# Altium integrated library Microchip PIC16 Part 1.IntLib: 1800 symbols (part 40 of 93)
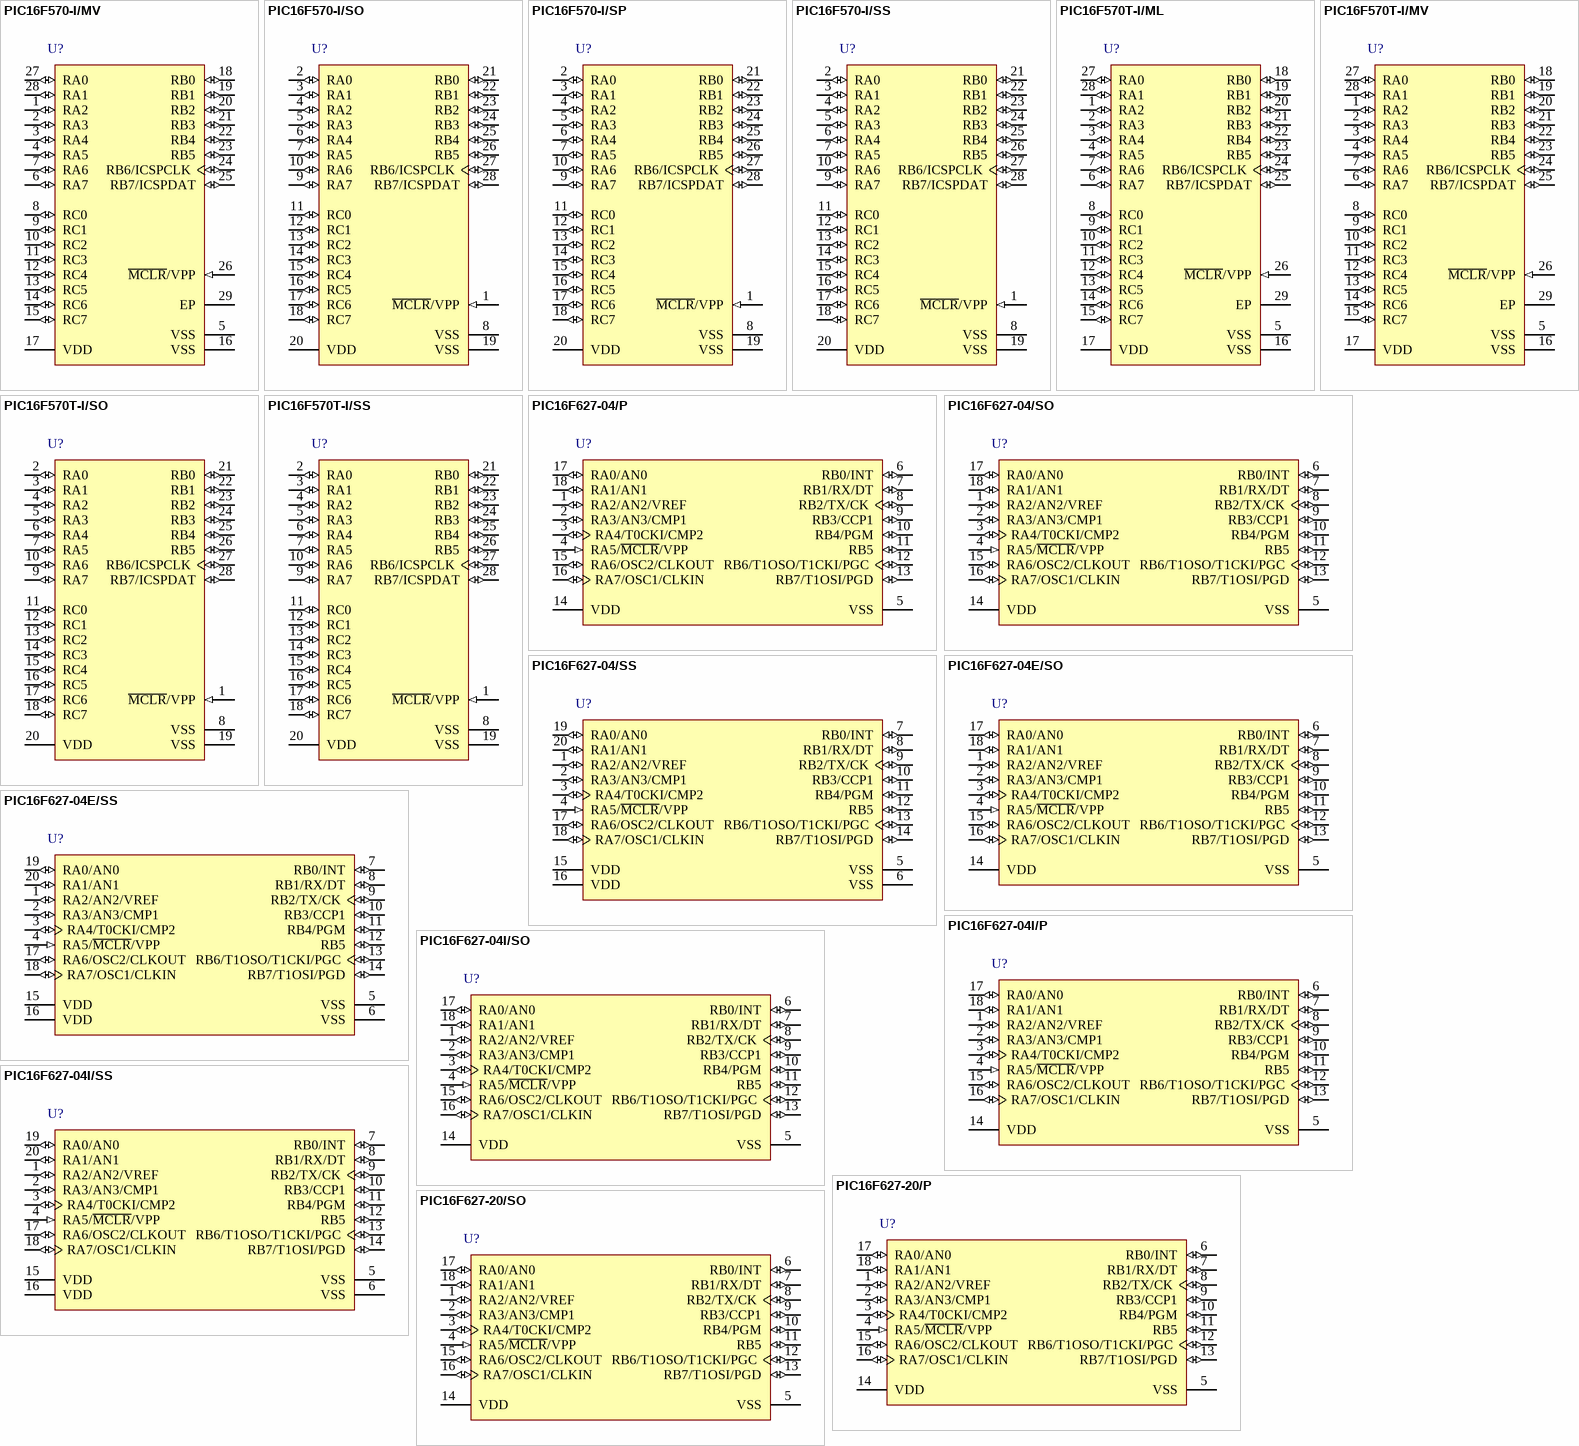
[diagram p139: symbols PIC16F570-I/MV to PIC16F627-20/SO]

## PIC16F627-04/SS
designator U?
Flash-Based 8-Bit CMOS Microcontroller, 4 MHz, 16 I/O, 0 to 70 degC, 20-pin SSOP (SS20), Tube; Manufacturer: Microchip; PartNumber: PIC16F627-04/SS; Digital Communication: 0 -UART, 1 -A/E/USART, 0 -SPI, 0 -I2C; EEPROM Data Memory (bytes): 128; I/O Pins: 16; Max. CPU Speed MHz: 4; Memory Type: Flash; Operation Voltage Range: 3V - 5.5V; Program Memory KBytes: 1.75; Program Memory KWords: 1; RAM: 224; Timers: 2 - 8-bit, 1 - 16-bit, 0 - 32-bit; DatasheetVersion: Rev. C; PackageVersion: C04-072B, 12/2012; PackageReference: SSOP-SS20; PackageDescription: 20-Lead Plastic Shrink Small Outline, 5.3 x 7.2 mm Body, 0.65 mm Pitch; Supplier 1: Digi-Key; Supplier Part Number 1: PIC16F627-04/SS-ND; Supplier 2: Newark; Supplier Part Number 2: 23C4962; Supplier 3: Mouser; Supplier Part Number 3: 579-PIC16F627-04/SS; Packing: TUBE; RoHS: TRUE; Mounting Technology: Surface Mount; ComponentLink1Description: Datasheet; ComponentLink1URL: http://ww1.microchip.com/downloads/en/DeviceDoc/40300C.pdf; ComponentLink2Description: Package Specification; ComponentLink2URL: http://www.microchip.com/stellent/groups/techpub_sg/documents/packagingspec/en012702.pdf; ComponentLink3Description: URL Link1; ComponentLink3URL: Product URL:http://www.microchip.com/datasheet/PIC16F627
footprint MCHP-SSOP-SS20_N (SOP, 20-Leads, Body 7.2x5.3mm, Pitch 0.65mm, IPC Medium Density)
footprint MCHP-SSOP-SS20_L (SOP, 20-Leads, Body 7.2x5.3mm, Pitch 0.65mm, IPC High Density)
footprint MCHP-SSOP-SS20_M (SOP, 20-Leads, Body 7.2x5.3mm, Pitch 0.65mm, IPC Low Density)
pins: 1 RA2/AN2/VREF (io), 2 RA3/AN3/CMP1 (io), 3 RA4/T0CKI/CMP2 (io), 4 RA5/~{MCLR}/VPP (in), 5 VSS (power) "Ground reference for logic and I/O pins", 6 VSS (power) "Ground reference for logic and I/O pins", 7 RB0/INT (io), 8 RB1/RX/DT (io), 9 RB2/TX/CK (io), 10 RB3/CCP1 (io), 11 RB4/PGM (io), 12 RB5 (io) "Bi-directional I/O port. Interrupt-on-pin change. Can be software programmed for internal weak pull-up.", 13 RB6/T1OSO/T1CKI/PGC (io), 14 RB7/T1OSI/PGD (io), 15 VDD (power) "Positive supply for logic and I/O pins", 16 VDD (power) "Positive supply for logic and I/O pins", 17 RA6/OSC2/CLKOUT (io), 18 RA7/OSC1/CLKIN (io), 19 RA0/AN0 (io), 20 RA1/AN1 (io)

## PIC16F627-04E/SO
designator U?
Flash-Based 8-Bit CMOS Microcontroller, 4 MHz, 16 I/O, -40 to 125 degC, 18-pin SOIC (SO18), Tube; Manufacturer: Microchip; PartNumber: PIC16F627-04E/SO; Digital Communication: 0 -UART, 1 -A/E/USART, 0 -SPI, 0 -I2C; EEPROM Data Memory (bytes): 128; I/O Pins: 16; Max. CPU Speed MHz: 4; Memory Type: Flash; Operation Voltage Range: 3V - 5.5V; Program Memory KBytes: 1.75; Program Memory KWords: 1; RAM: 224; Timers: 2 - 8-bit, 1 - 16-bit, 0 - 32-bit; DatasheetVersion: Rev. C; PackageVersion: C04-051C, 12/2012; PackageReference: SOIC-SO18; PackageDescription: 18-Lead Plastic Small Outline, 7.5 x 11.55 mm Body, 1.27 mm Pitch; Supplier 1: Digi-Key; Supplier Part Number 1: PIC16F627-04E/SO-ND; Supplier 2: Mouser; Supplier Part Number 2: 579-PIC16F627-04E/SO; Packing: TUBE; RoHS: TRUE; Mounting Technology: Surface Mount; ComponentLink1Description: Datasheet; ComponentLink1URL: http://ww1.microchip.com/downloads/en/DeviceDoc/40300C.pdf; ComponentLink2Description: Package Specification; ComponentLink2URL: http://www.microchip.com/stellent/groups/techpub_sg/documents/packagingspec/en012702.pdf; ComponentLink3Description: URL Link1; ComponentLink3URL: Product URL:http://www.microchip.com/datasheet/PIC16F627
footprint MCHP-SOIC-SO18_N (SOIC, 18-Leads, Body 11.55x7.5mm, Pitch 1.27mm, IPC Medium Density)
footprint MCHP-SOIC-SO18_L (SOIC, 18-Leads, Body 11.55x7.5mm, Pitch 1.27mm, IPC High Density)
footprint MCHP-SOIC-SO18_M (SOIC, 18-Leads, Body 11.55x7.5mm, Pitch 1.27mm, IPC Low Density)
pins: 1 RA2/AN2/VREF (io), 2 RA3/AN3/CMP1 (io), 3 RA4/T0CKI/CMP2 (io), 4 RA5/~{MCLR}/VPP (in), 5 VSS (power) "Ground reference for logic and I/O pins", 6 RB0/INT (io), 7 RB1/RX/DT (io), 8 RB2/TX/CK (io), 9 RB3/CCP1 (io), 10 RB4/PGM (io), 11 RB5 (io) "Bi-directional I/O port. Interrupt-on-pin change. Can be software programmed for internal weak pull-up.", 12 RB6/T1OSO/T1CKI/PGC (io), 13 RB7/T1OSI/PGD (io), 14 VDD (power) "Positive supply for logic and I/O pins", 15 RA6/OSC2/CLKOUT (io), 16 RA7/OSC1/CLKIN (io), 17 RA0/AN0 (io), 18 RA1/AN1 (io)

## PIC16F627-04E/SS
designator U?
Flash-Based 8-Bit CMOS Microcontroller, 4 MHz, 16 I/O, -40 to 125 degC, 20-pin SSOP (SS20), Tube; Manufacturer: Microchip; PartNumber: PIC16F627-04E/SS; Digital Communication: 0 -UART, 1 -A/E/USART, 0 -SPI, 0 -I2C; EEPROM Data Memory (bytes): 128; I/O Pins: 16; Max. CPU Speed MHz: 4; Memory Type: Flash; Operation Voltage Range: 3V - 5.5V; Program Memory KBytes: 1.75; Program Memory KWords: 1; RAM: 224; Timers: 2 - 8-bit, 1 - 16-bit, 0 - 32-bit; DatasheetVersion: Rev. C; PackageVersion: C04-072B, 12/2012; PackageReference: SSOP-SS20; PackageDescription: 20-Lead Plastic Shrink Small Outline, 5.3 x 7.2 mm Body, 0.65 mm Pitch; Supplier 1: Digi-Key; Supplier Part Number 1: PIC16F627-04E/SS-ND; Supplier 2: Mouser; Supplier Part Number 2: 579-PIC16F627-04E/SS; Packing: TUBE; RoHS: TRUE; Mounting Technology: Surface Mount; ComponentLink1Description: Datasheet; ComponentLink1URL: http://ww1.microchip.com/downloads/en/DeviceDoc/40300C.pdf; ComponentLink2Description: Package Specification; ComponentLink2URL: http://www.microchip.com/stellent/groups/techpub_sg/documents/packagingspec/en012702.pdf; ComponentLink3Description: URL Link1; ComponentLink3URL: Product URL:http://www.microchip.com/datasheet/PIC16F627
footprint MCHP-SSOP-SS20_N (SOP, 20-Leads, Body 7.2x5.3mm, Pitch 0.65mm, IPC Medium Density)
footprint MCHP-SSOP-SS20_L (SOP, 20-Leads, Body 7.2x5.3mm, Pitch 0.65mm, IPC High Density)
footprint MCHP-SSOP-SS20_M (SOP, 20-Leads, Body 7.2x5.3mm, Pitch 0.65mm, IPC Low Density)
pins: 1 RA2/AN2/VREF (io), 2 RA3/AN3/CMP1 (io), 3 RA4/T0CKI/CMP2 (io), 4 RA5/~{MCLR}/VPP (in), 5 VSS (power) "Ground reference for logic and I/O pins", 6 VSS (power) "Ground reference for logic and I/O pins", 7 RB0/INT (io), 8 RB1/RX/DT (io), 9 RB2/TX/CK (io), 10 RB3/CCP1 (io), 11 RB4/PGM (io), 12 RB5 (io) "Bi-directional I/O port. Interrupt-on-pin change. Can be software programmed for internal weak pull-up.", 13 RB6/T1OSO/T1CKI/PGC (io), 14 RB7/T1OSI/PGD (io), 15 VDD (power) "Positive supply for logic and I/O pins", 16 VDD (power) "Positive supply for logic and I/O pins", 17 RA6/OSC2/CLKOUT (io), 18 RA7/OSC1/CLKIN (io), 19 RA0/AN0 (io), 20 RA1/AN1 (io)

## PIC16F627-04I/P
designator U?
Flash-Based 8-Bit CMOS Microcontroller, 4 MHz, 16 I/O, -40 to 85 degC, 18-pin PDIP (P18), Tube; Manufacturer: Microchip; PartNumber: PIC16F627-04I/P; Digital Communication: 0 -UART, 1 -A/E/USART, 0 -SPI, 0 -I2C; EEPROM Data Memory (bytes): 128; I/O Pins: 16; Max. CPU Speed MHz: 4; Memory Type: Flash; Operation Voltage Range: 3V - 5.5V; Program Memory KBytes: 1.75; Program Memory KWords: 1; RAM: 224; Timers: 2 - 8-bit, 1 - 16-bit, 0 - 32-bit; DatasheetVersion: Rev. C; PackageVersion: C04-007B, 12/2012; PackageReference: PDIP-P18; PackageDescription: 18-Lead Plastic Dual In-Line, Row Spacing 7.62 mm, 22.86 x 6.6 mm Body, 2.54 mm Pitch; Supplier 1: Digi-Key; Supplier Part Number 1: PIC16F627-04I/P-ND; Supplier 2: Farnell; Supplier Part Number 2: 1084298; Supplier 3: Newark; Supplier Part Number 3: 97K7322; Supplier 4: Newark; Supplier Part Number 4: 61K3448; Supplier 5: Mouser; Supplier Part Number 5: 579-PIC16F627-04I/P; Packing: TUBE; RoHS: TRUE; Mounting Technology: Through Hole; ComponentLink1Description: Datasheet; ComponentLink1URL: http://ww1.microchip.com/downloads/en/DeviceDoc/40300C.pdf; ComponentLink2Description: Package Specification; ComponentLink2URL: http://www.microchip.com/stellent/groups/techpub_sg/documents/packagingspec/en012702.pdf; ComponentLink3Description: URL Link1; ComponentLink3URL: Product URL:http://www.microchip.com/datasheet/PIC16F627
footprint MCHP-PDIP-P18 (DIP, 18-Leads, Body 22.83x6.604mm, Pitch 2.54mm)
pins: 1 RA2/AN2/VREF (io), 2 RA3/AN3/CMP1 (io), 3 RA4/T0CKI/CMP2 (io), 4 RA5/~{MCLR}/VPP (in), 5 VSS (power) "Ground reference for logic and I/O pins", 6 RB0/INT (io), 7 RB1/RX/DT (io), 8 RB2/TX/CK (io), 9 RB3/CCP1 (io), 10 RB4/PGM (io), 11 RB5 (io) "Bi-directional I/O port. Interrupt-on-pin change. Can be software programmed for internal weak pull-up.", 12 RB6/T1OSO/T1CKI/PGC (io), 13 RB7/T1OSI/PGD (io), 14 VDD (power) "Positive supply for logic and I/O pins", 15 RA6/OSC2/CLKOUT (io), 16 RA7/OSC1/CLKIN (io), 17 RA0/AN0 (io), 18 RA1/AN1 (io)

## PIC16F627-04I/SO
designator U?
Flash-Based 8-Bit CMOS Microcontroller, 4 MHz, 16 I/O, -40 to 85 degC, 18-pin SOIC (SO18), Tube; Manufacturer: Microchip; PartNumber: PIC16F627-04I/SO; Digital Communication: 0 -UART, 1 -A/E/USART, 0 -SPI, 0 -I2C; EEPROM Data Memory (bytes): 128; I/O Pins: 16; Max. CPU Speed MHz: 4; Memory Type: Flash; Operation Voltage Range: 3V - 5.5V; Program Memory KBytes: 1.75; Program Memory KWords: 1; RAM: 224; Timers: 2 - 8-bit, 1 - 16-bit, 0 - 32-bit; DatasheetVersion: Rev. C; PackageVersion: C04-051C, 12/2012; PackageReference: SOIC-SO18; PackageDescription: 18-Lead Plastic Small Outline, 7.5 x 11.55 mm Body, 1.27 mm Pitch; Supplier 1: Digi-Key; Supplier Part Number 1: PIC16F627-04I/SO-ND; Supplier 2: Farnell; Supplier Part Number 2: 9760296; Supplier 3: Newark; Supplier Part Number 3: 19C7271; Supplier 4: Mouser; Supplier Part Number 4: 579-PIC16F627-04I/SO; Packing: TUBE; RoHS: TRUE; Mounting Technology: Surface Mount; ComponentLink1Description: Datasheet; ComponentLink1URL: http://ww1.microchip.com/downloads/en/DeviceDoc/40300C.pdf; ComponentLink2Description: Package Specification; ComponentLink2URL: http://www.microchip.com/stellent/groups/techpub_sg/documents/packagingspec/en012702.pdf; ComponentLink3Description: URL Link1; ComponentLink3URL: Product URL:http://www.microchip.com/datasheet/PIC16F627
footprint MCHP-SOIC-SO18_N (SOIC, 18-Leads, Body 11.55x7.5mm, Pitch 1.27mm, IPC Medium Density)
footprint MCHP-SOIC-SO18_L (SOIC, 18-Leads, Body 11.55x7.5mm, Pitch 1.27mm, IPC High Density)
footprint MCHP-SOIC-SO18_M (SOIC, 18-Leads, Body 11.55x7.5mm, Pitch 1.27mm, IPC Low Density)
pins: 1 RA2/AN2/VREF (io), 2 RA3/AN3/CMP1 (io), 3 RA4/T0CKI/CMP2 (io), 4 RA5/~{MCLR}/VPP (in), 5 VSS (power) "Ground reference for logic and I/O pins", 6 RB0/INT (io), 7 RB1/RX/DT (io), 8 RB2/TX/CK (io), 9 RB3/CCP1 (io), 10 RB4/PGM (io), 11 RB5 (io) "Bi-directional I/O port. Interrupt-on-pin change. Can be software programmed for internal weak pull-up.", 12 RB6/T1OSO/T1CKI/PGC (io), 13 RB7/T1OSI/PGD (io), 14 VDD (power) "Positive supply for logic and I/O pins", 15 RA6/OSC2/CLKOUT (io), 16 RA7/OSC1/CLKIN (io), 17 RA0/AN0 (io), 18 RA1/AN1 (io)

## PIC16F627-04I/SS
designator U?
Flash-Based 8-Bit CMOS Microcontroller, 4 MHz, 16 I/O, -40 to 85 degC, 20-pin SSOP (SS20), Tube; Manufacturer: Microchip; PartNumber: PIC16F627-04I/SS; Digital Communication: 0 -UART, 1 -A/E/USART, 0 -SPI, 0 -I2C; EEPROM Data Memory (bytes): 128; I/O Pins: 16; Max. CPU Speed MHz: 4; Memory Type: Flash; Operation Voltage Range: 3V - 5.5V; Program Memory KBytes: 1.75; Program Memory KWords: 1; RAM: 224; Timers: 2 - 8-bit, 1 - 16-bit, 0 - 32-bit; DatasheetVersion: Rev. C; PackageVersion: C04-072B, 12/2012; PackageReference: SSOP-SS20; PackageDescription: 20-Lead Plastic Shrink Small Outline, 5.3 x 7.2 mm Body, 0.65 mm Pitch; Supplier 1: Digi-Key; Supplier Part Number 1: PIC16F627-04I/SS-ND; Supplier 2: Farnell; Supplier Part Number 2: 9760300; Supplier 3: Newark; Supplier Part Number 3: 97K7324; Supplier 4: Mouser; Supplier Part Number 4: 579-PIC16F627-04I/SS; Packing: TUBE; RoHS: TRUE; Mounting Technology: Surface Mount; ComponentLink1Description: Datasheet; ComponentLink1URL: http://ww1.microchip.com/downloads/en/DeviceDoc/40300C.pdf; ComponentLink2Description: Package Specification; ComponentLink2URL: http://www.microchip.com/stellent/groups/techpub_sg/documents/packagingspec/en012702.pdf; ComponentLink3Description: URL Link1; ComponentLink3URL: Product URL:http://www.microchip.com/datasheet/PIC16F627
footprint MCHP-SSOP-SS20_N (SOP, 20-Leads, Body 7.2x5.3mm, Pitch 0.65mm, IPC Medium Density)
footprint MCHP-SSOP-SS20_L (SOP, 20-Leads, Body 7.2x5.3mm, Pitch 0.65mm, IPC High Density)
footprint MCHP-SSOP-SS20_M (SOP, 20-Leads, Body 7.2x5.3mm, Pitch 0.65mm, IPC Low Density)
pins: 1 RA2/AN2/VREF (io), 2 RA3/AN3/CMP1 (io), 3 RA4/T0CKI/CMP2 (io), 4 RA5/~{MCLR}/VPP (in), 5 VSS (power) "Ground reference for logic and I/O pins", 6 VSS (power) "Ground reference for logic and I/O pins", 7 RB0/INT (io), 8 RB1/RX/DT (io), 9 RB2/TX/CK (io), 10 RB3/CCP1 (io), 11 RB4/PGM (io), 12 RB5 (io) "Bi-directional I/O port. Interrupt-on-pin change. Can be software programmed for internal weak pull-up.", 13 RB6/T1OSO/T1CKI/PGC (io), 14 RB7/T1OSI/PGD (io), 15 VDD (power) "Positive supply for logic and I/O pins", 16 VDD (power) "Positive supply for logic and I/O pins", 17 RA6/OSC2/CLKOUT (io), 18 RA7/OSC1/CLKIN (io), 19 RA0/AN0 (io), 20 RA1/AN1 (io)

## PIC16F627-20/P
designator U?
Flash-Based 8-Bit CMOS Microcontroller, 20 MHz, 16 I/O, 0 to 70 degC, 18-pin PDIP (P18), Tube; Manufacturer: Microchip; PartNumber: PIC16F627-20/P; Digital Communication: 0 -UART, 1 -A/E/USART, 0 -SPI, 0 -I2C; EEPROM Data Memory (bytes): 128; I/O Pins: 16; Max. CPU Speed MHz: 20; Memory Type: Flash; Operation Voltage Range: 3V - 5.5V; Program Memory KBytes: 1.75; Program Memory KWords: 1; RAM: 224; Timers: 2 - 8-bit, 1 - 16-bit, 0 - 32-bit; DatasheetVersion: Rev. C; PackageVersion: C04-007B, 12/2012; PackageReference: PDIP-P18; PackageDescription: 18-Lead Plastic Dual In-Line, Row Spacing 7.62 mm, 22.86 x 6.6 mm Body, 2.54 mm Pitch; Supplier 1: Digi-Key; Supplier Part Number 1: PIC16F627-20/P-ND; Supplier 2: Newark; Supplier Part Number 2: 96K3874; Supplier 3: Mouser; Supplier Part Number 3: 579-PIC16F62720P; Packing: TUBE; RoHS: TRUE; Mounting Technology: Through Hole; ComponentLink1Description: Datasheet; ComponentLink1URL: http://ww1.microchip.com/downloads/en/DeviceDoc/40300C.pdf; ComponentLink2Description: Package Specification; ComponentLink2URL: http://www.microchip.com/stellent/groups/techpub_sg/documents/packagingspec/en012702.pdf; ComponentLink3Description: URL Link1; ComponentLink3URL: Product URL:http://www.microchip.com/datasheet/PIC16F627
footprint MCHP-PDIP-P18 (DIP, 18-Leads, Body 22.83x6.604mm, Pitch 2.54mm)
pins: 1 RA2/AN2/VREF (io), 2 RA3/AN3/CMP1 (io), 3 RA4/T0CKI/CMP2 (io), 4 RA5/~{MCLR}/VPP (in), 5 VSS (power) "Ground reference for logic and I/O pins", 6 RB0/INT (io), 7 RB1/RX/DT (io), 8 RB2/TX/CK (io), 9 RB3/CCP1 (io), 10 RB4/PGM (io), 11 RB5 (io) "Bi-directional I/O port. Interrupt-on-pin change. Can be software programmed for internal weak pull-up.", 12 RB6/T1OSO/T1CKI/PGC (io), 13 RB7/T1OSI/PGD (io), 14 VDD (power) "Positive supply for logic and I/O pins", 15 RA6/OSC2/CLKOUT (io), 16 RA7/OSC1/CLKIN (io), 17 RA0/AN0 (io), 18 RA1/AN1 (io)

## PIC16F627-20/SO
designator U?
Flash-Based 8-Bit CMOS Microcontroller, 20 MHz, 16 I/O, 0 to 70 degC, 18-pin SOIC (SO18), Tube; Manufacturer: Microchip; PartNumber: PIC16F627-20/SO; Digital Communication: 0 -UART, 1 -A/E/USART, 0 -SPI, 0 -I2C; EEPROM Data Memory (bytes): 128; I/O Pins: 16; Max. CPU Speed MHz: 20; Memory Type: Flash; Operation Voltage Range: 3V - 5.5V; Program Memory KBytes: 1.75; Program Memory KWords: 1; RAM: 224; Timers: 2 - 8-bit, 1 - 16-bit, 0 - 32-bit; DatasheetVersion: Rev. C; PackageVersion: C04-051C, 12/2012; PackageReference: SOIC-SO18; PackageDescription: 18-Lead Plastic Small Outline, 7.5 x 11.55 mm Body, 1.27 mm Pitch; Supplier 1: Digi-Key; Supplier Part Number 1: PIC16F627-20/SO-ND; Supplier 2: Newark; Supplier Part Number 2: 23C4965; Supplier 3: Mouser; Supplier Part Number 3: 579-PIC16F62720SO; Packing: TUBE; RoHS: TRUE; Mounting Technology: Surface Mount; ComponentLink1Description: Datasheet; ComponentLink1URL: http://ww1.microchip.com/downloads/en/DeviceDoc/40300C.pdf; ComponentLink2Description: Package Specification; ComponentLink2URL: http://www.microchip.com/stellent/groups/techpub_sg/documents/packagingspec/en012702.pdf; ComponentLink3Description: URL Link1; ComponentLink3URL: Product URL:http://www.microchip.com/datasheet/PIC16F627
footprint MCHP-SOIC-SO18_N (SOIC, 18-Leads, Body 11.55x7.5mm, Pitch 1.27mm, IPC Medium Density)
footprint MCHP-SOIC-SO18_L (SOIC, 18-Leads, Body 11.55x7.5mm, Pitch 1.27mm, IPC High Density)
footprint MCHP-SOIC-SO18_M (SOIC, 18-Leads, Body 11.55x7.5mm, Pitch 1.27mm, IPC Low Density)
pins: 1 RA2/AN2/VREF (io), 2 RA3/AN3/CMP1 (io), 3 RA4/T0CKI/CMP2 (io), 4 RA5/~{MCLR}/VPP (in), 5 VSS (power) "Ground reference for logic and I/O pins", 6 RB0/INT (io), 7 RB1/RX/DT (io), 8 RB2/TX/CK (io), 9 RB3/CCP1 (io), 10 RB4/PGM (io), 11 RB5 (io) "Bi-directional I/O port. Interrupt-on-pin change. Can be software programmed for internal weak pull-up.", 12 RB6/T1OSO/T1CKI/PGC (io), 13 RB7/T1OSI/PGD (io), 14 VDD (power) "Positive supply for logic and I/O pins", 15 RA6/OSC2/CLKOUT (io), 16 RA7/OSC1/CLKIN (io), 17 RA0/AN0 (io), 18 RA1/AN1 (io)

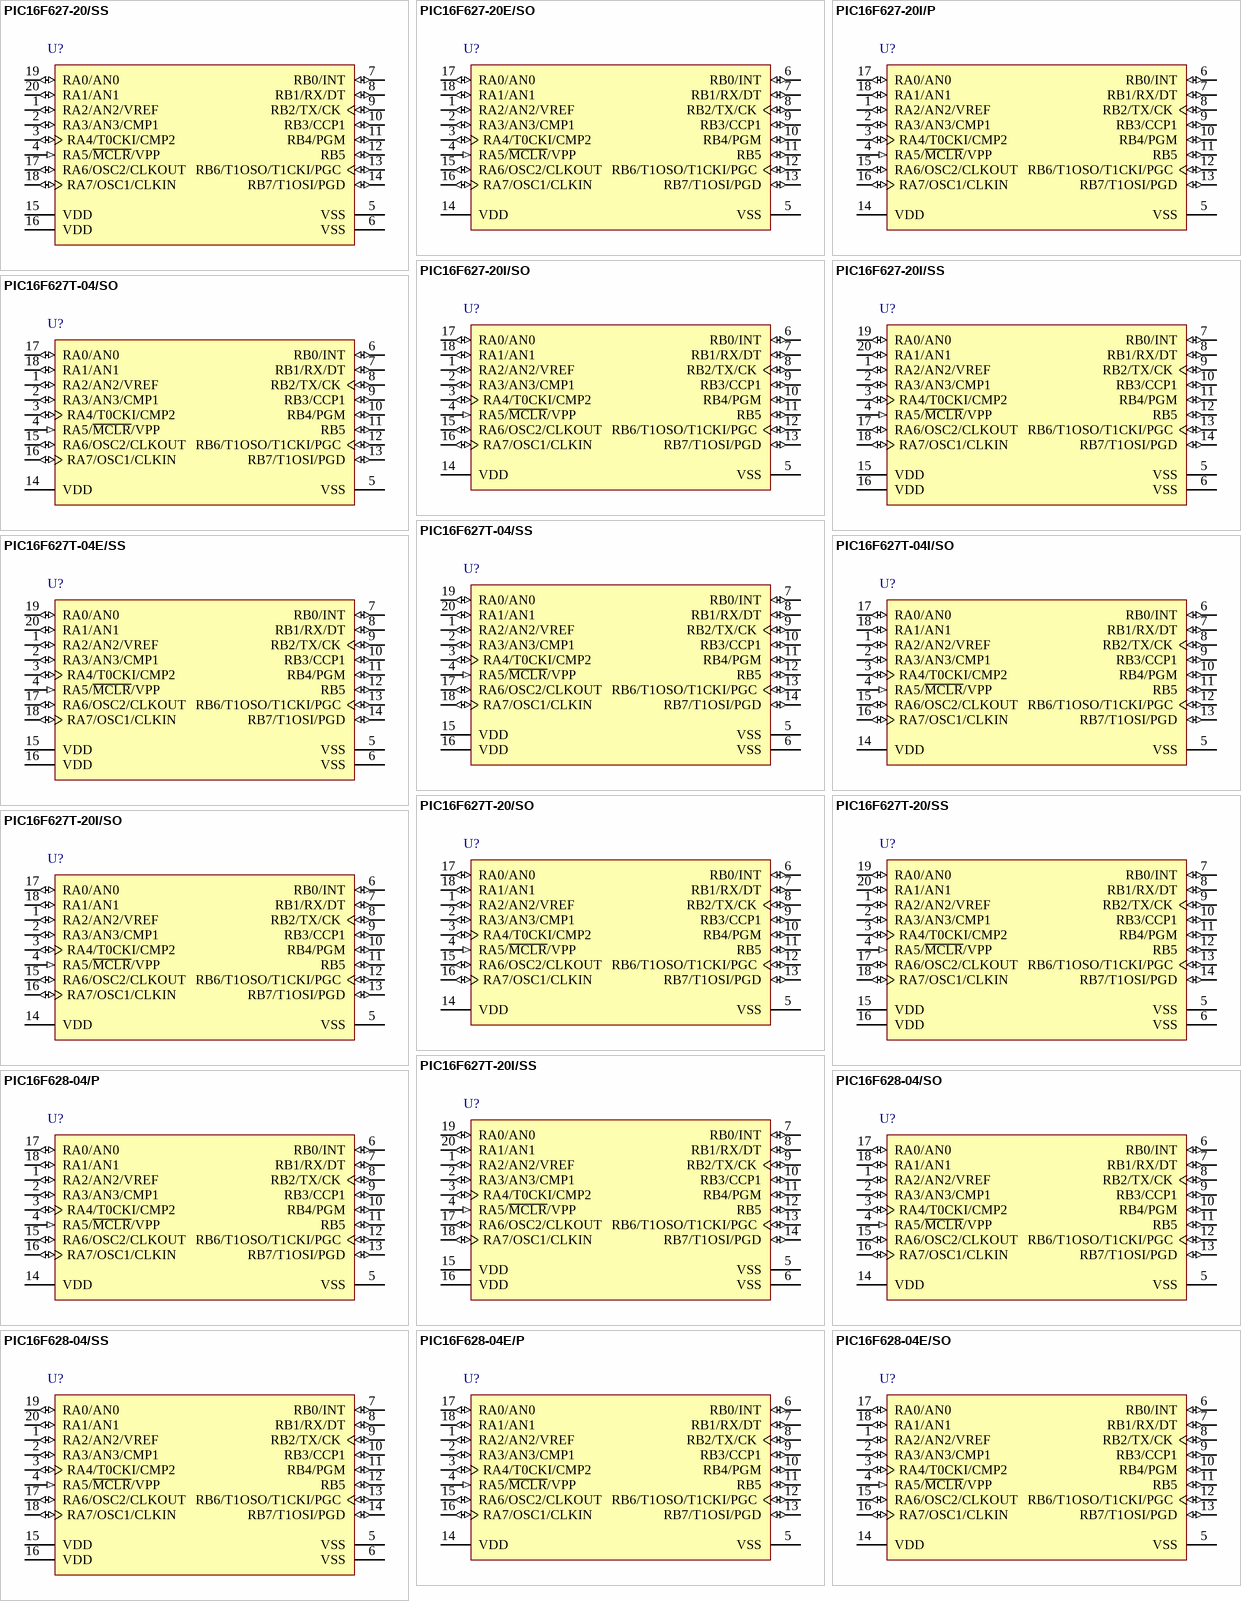
[diagram p35: symbols PIC16F627-20/SS to PIC16F628-04E/SO]

## PIC16F627-20/SS
designator U?
Flash-Based 8-Bit CMOS Microcontroller, 20 MHz, 16 I/O, 0 to 70 degC, 20-pin SSOP (SS20), Tube; Manufacturer: Microchip; PartNumber: PIC16F627-20/SS; Digital Communication: 0 -UART, 1 -A/E/USART, 0 -SPI, 0 -I2C; EEPROM Data Memory (bytes): 128; I/O Pins: 16; Max. CPU Speed MHz: 20; Memory Type: Flash; Operation Voltage Range: 3V - 5.5V; Program Memory KBytes: 1.75; Program Memory KWords: 1; RAM: 224; Timers: 2 - 8-bit, 1 - 16-bit, 0 - 32-bit; DatasheetVersion: Rev. C; PackageVersion: C04-072B, 12/2012; PackageReference: SSOP-SS20; PackageDescription: 20-Lead Plastic Shrink Small Outline, 5.3 x 7.2 mm Body, 0.65 mm Pitch; Supplier 1: Digi-Key; Supplier Part Number 1: PIC16F627-20/SS-ND; Supplier 2: Mouser; Supplier Part Number 2: 579-PIC16F627-20/SS; Packing: TUBE; RoHS: TRUE; Mounting Technology: Surface Mount; ComponentLink1Description: Datasheet; ComponentLink1URL: http://ww1.microchip.com/downloads/en/DeviceDoc/40300C.pdf; ComponentLink2Description: Package Specification; ComponentLink2URL: http://www.microchip.com/stellent/groups/techpub_sg/documents/packagingspec/en012702.pdf; ComponentLink3Description: URL Link1; ComponentLink3URL: Product URL:http://www.microchip.com/datasheet/PIC16F627
footprint MCHP-SSOP-SS20_N (SOP, 20-Leads, Body 7.2x5.3mm, Pitch 0.65mm, IPC Medium Density)
footprint MCHP-SSOP-SS20_L (SOP, 20-Leads, Body 7.2x5.3mm, Pitch 0.65mm, IPC High Density)
footprint MCHP-SSOP-SS20_M (SOP, 20-Leads, Body 7.2x5.3mm, Pitch 0.65mm, IPC Low Density)
pins: 1 RA2/AN2/VREF (io), 2 RA3/AN3/CMP1 (io), 3 RA4/T0CKI/CMP2 (io), 4 RA5/~{MCLR}/VPP (in), 5 VSS (power) "Ground reference for logic and I/O pins", 6 VSS (power) "Ground reference for logic and I/O pins", 7 RB0/INT (io), 8 RB1/RX/DT (io), 9 RB2/TX/CK (io), 10 RB3/CCP1 (io), 11 RB4/PGM (io), 12 RB5 (io) "Bi-directional I/O port. Interrupt-on-pin change. Can be software programmed for internal weak pull-up.", 13 RB6/T1OSO/T1CKI/PGC (io), 14 RB7/T1OSI/PGD (io), 15 VDD (power) "Positive supply for logic and I/O pins", 16 VDD (power) "Positive supply for logic and I/O pins", 17 RA6/OSC2/CLKOUT (io), 18 RA7/OSC1/CLKIN (io), 19 RA0/AN0 (io), 20 RA1/AN1 (io)

## PIC16F627-20E/SO
designator U?
Flash-Based 8-Bit CMOS Microcontroller, 20 MHz, 16 I/O, -40 to 125 degC, 18-pin SOIC (SO18), Tube; Manufacturer: Microchip; PartNumber: PIC16F627-20E/SO; Digital Communication: 0 -UART, 1 -A/E/USART, 0 -SPI, 0 -I2C; EEPROM Data Memory (bytes): 128; I/O Pins: 16; Max. CPU Speed MHz: 20; Memory Type: Flash; Operation Voltage Range: 3V - 5.5V; Program Memory KBytes: 1.75; Program Memory KWords: 1; RAM: 224; Timers: 2 - 8-bit, 1 - 16-bit, 0 - 32-bit; DatasheetVersion: Rev. C; PackageVersion: C04-051C, 12/2012; PackageReference: SOIC-SO18; PackageDescription: 18-Lead Plastic Small Outline, 7.5 x 11.55 mm Body, 1.27 mm Pitch; Supplier 1: Digi-Key; Supplier Part Number 1: PIC16F627-20E/SO-ND; Supplier 2: Mouser; Supplier Part Number 2: 579-PIC16F627-20E/SO; Packing: TUBE; RoHS: TRUE; Mounting Technology: Surface Mount; ComponentLink1Description: Datasheet; ComponentLink1URL: http://ww1.microchip.com/downloads/en/DeviceDoc/40300C.pdf; ComponentLink2Description: Package Specification; ComponentLink2URL: http://www.microchip.com/stellent/groups/techpub_sg/documents/packagingspec/en012702.pdf; ComponentLink3Description: URL Link1; ComponentLink3URL: Product URL:http://www.microchip.com/datasheet/PIC16F627
footprint MCHP-SOIC-SO18_N (SOIC, 18-Leads, Body 11.55x7.5mm, Pitch 1.27mm, IPC Medium Density)
footprint MCHP-SOIC-SO18_L (SOIC, 18-Leads, Body 11.55x7.5mm, Pitch 1.27mm, IPC High Density)
footprint MCHP-SOIC-SO18_M (SOIC, 18-Leads, Body 11.55x7.5mm, Pitch 1.27mm, IPC Low Density)
pins: 1 RA2/AN2/VREF (io), 2 RA3/AN3/CMP1 (io), 3 RA4/T0CKI/CMP2 (io), 4 RA5/~{MCLR}/VPP (in), 5 VSS (power) "Ground reference for logic and I/O pins", 6 RB0/INT (io), 7 RB1/RX/DT (io), 8 RB2/TX/CK (io), 9 RB3/CCP1 (io), 10 RB4/PGM (io), 11 RB5 (io) "Bi-directional I/O port. Interrupt-on-pin change. Can be software programmed for internal weak pull-up.", 12 RB6/T1OSO/T1CKI/PGC (io), 13 RB7/T1OSI/PGD (io), 14 VDD (power) "Positive supply for logic and I/O pins", 15 RA6/OSC2/CLKOUT (io), 16 RA7/OSC1/CLKIN (io), 17 RA0/AN0 (io), 18 RA1/AN1 (io)

## PIC16F627-20I/P
designator U?
Flash-Based 8-Bit CMOS Microcontroller, 20 MHz, 16 I/O, -40 to 85 degC, 18-pin PDIP (P18), Tube; Manufacturer: Microchip; PartNumber: PIC16F627-20I/P; Digital Communication: 0 -UART, 1 -A/E/USART, 0 -SPI, 0 -I2C; EEPROM Data Memory (bytes): 128; I/O Pins: 16; Max. CPU Speed MHz: 20; Memory Type: Flash; Operation Voltage Range: 3V - 5.5V; Program Memory KBytes: 1.75; Program Memory KWords: 1; RAM: 224; Timers: 2 - 8-bit, 1 - 16-bit, 0 - 32-bit; DatasheetVersion: Rev. C; PackageVersion: C04-007B, 12/2012; PackageReference: PDIP-P18; PackageDescription: 18-Lead Plastic Dual In-Line, Row Spacing 7.62 mm, 22.86 x 6.6 mm Body, 2.54 mm Pitch; Supplier 1: Digi-Key; Supplier Part Number 1: PIC16F627-20I/P-ND; Supplier 2: Farnell; Supplier Part Number 2: 9760318; Supplier 3: Newark; Supplier Part Number 3: 97K7325; Supplier 4: Newark; Supplier Part Number 4: 23C4967; Supplier 5: Mouser; Supplier Part Number 5: 579-PIC16F627-20I/P; Packing: TUBE; RoHS: TRUE; Mounting Technology: Through Hole; ComponentLink1Description: Datasheet; ComponentLink1URL: http://ww1.microchip.com/downloads/en/DeviceDoc/40300C.pdf; ComponentLink2Description: Package Specification; ComponentLink2URL: http://www.microchip.com/stellent/groups/techpub_sg/documents/packagingspec/en012702.pdf; ComponentLink3Description: URL Link1; ComponentLink3URL: Product URL:http://www.microchip.com/datasheet/PIC16F627
footprint MCHP-PDIP-P18 (DIP, 18-Leads, Body 22.83x6.604mm, Pitch 2.54mm)
pins: 1 RA2/AN2/VREF (io), 2 RA3/AN3/CMP1 (io), 3 RA4/T0CKI/CMP2 (io), 4 RA5/~{MCLR}/VPP (in), 5 VSS (power) "Ground reference for logic and I/O pins", 6 RB0/INT (io), 7 RB1/RX/DT (io), 8 RB2/TX/CK (io), 9 RB3/CCP1 (io), 10 RB4/PGM (io), 11 RB5 (io) "Bi-directional I/O port. Interrupt-on-pin change. Can be software programmed for internal weak pull-up.", 12 RB6/T1OSO/T1CKI/PGC (io), 13 RB7/T1OSI/PGD (io), 14 VDD (power) "Positive supply for logic and I/O pins", 15 RA6/OSC2/CLKOUT (io), 16 RA7/OSC1/CLKIN (io), 17 RA0/AN0 (io), 18 RA1/AN1 (io)

## PIC16F627-20I/SO
designator U?
Flash-Based 8-Bit CMOS Microcontroller, 20 MHz, 16 I/O, -40 to 85 degC, 18-pin SOIC (SO18), Tube; Manufacturer: Microchip; PartNumber: PIC16F627-20I/SO; Digital Communication: 0 -UART, 1 -A/E/USART, 0 -SPI, 0 -I2C; EEPROM Data Memory (bytes): 128; I/O Pins: 16; Max. CPU Speed MHz: 20; Memory Type: Flash; Operation Voltage Range: 3V - 5.5V; Program Memory KBytes: 1.75; Program Memory KWords: 1; RAM: 224; Timers: 2 - 8-bit, 1 - 16-bit, 0 - 32-bit; DatasheetVersion: Rev. C; PackageVersion: C04-051C, 12/2012; PackageReference: SOIC-SO18; PackageDescription: 18-Lead Plastic Small Outline, 7.5 x 11.55 mm Body, 1.27 mm Pitch; Supplier 1: Digi-Key; Supplier Part Number 1: PIC16F627-20I/SO-ND; Supplier 2: Farnell; Supplier Part Number 2: 1084265MPKG; Supplier 3: Farnell; Supplier Part Number 3: 1084265; Supplier 4: Newark; Supplier Part Number 4: 23C4968; Supplier 5: Mouser; Supplier Part Number 5: 579-PIC16F627-20I/SO; Packing: TUBE; RoHS: TRUE; Mounting Technology: Surface Mount; ComponentLink1Description: Datasheet; ComponentLink1URL: http://ww1.microchip.com/downloads/en/DeviceDoc/40300C.pdf; ComponentLink2Description: Package Specification; ComponentLink2URL: http://www.microchip.com/stellent/groups/techpub_sg/documents/packagingspec/en012702.pdf; ComponentLink3Description: URL Link1; ComponentLink3URL: Product URL:http://www.microchip.com/datasheet/PIC16F627
footprint MCHP-SOIC-SO18_N (SOIC, 18-Leads, Body 11.55x7.5mm, Pitch 1.27mm, IPC Medium Density)
footprint MCHP-SOIC-SO18_L (SOIC, 18-Leads, Body 11.55x7.5mm, Pitch 1.27mm, IPC High Density)
footprint MCHP-SOIC-SO18_M (SOIC, 18-Leads, Body 11.55x7.5mm, Pitch 1.27mm, IPC Low Density)
pins: 1 RA2/AN2/VREF (io), 2 RA3/AN3/CMP1 (io), 3 RA4/T0CKI/CMP2 (io), 4 RA5/~{MCLR}/VPP (in), 5 VSS (power) "Ground reference for logic and I/O pins", 6 RB0/INT (io), 7 RB1/RX/DT (io), 8 RB2/TX/CK (io), 9 RB3/CCP1 (io), 10 RB4/PGM (io), 11 RB5 (io) "Bi-directional I/O port. Interrupt-on-pin change. Can be software programmed for internal weak pull-up.", 12 RB6/T1OSO/T1CKI/PGC (io), 13 RB7/T1OSI/PGD (io), 14 VDD (power) "Positive supply for logic and I/O pins", 15 RA6/OSC2/CLKOUT (io), 16 RA7/OSC1/CLKIN (io), 17 RA0/AN0 (io), 18 RA1/AN1 (io)

## PIC16F627-20I/SS
designator U?
Flash-Based 8-Bit CMOS Microcontroller, 20 MHz, 16 I/O, -40 to 85 degC, 20-pin SSOP (SS20), Tube; Manufacturer: Microchip; PartNumber: PIC16F627-20I/SS; Digital Communication: 0 -UART, 1 -A/E/USART, 0 -SPI, 0 -I2C; EEPROM Data Memory (bytes): 128; I/O Pins: 16; Max. CPU Speed MHz: 20; Memory Type: Flash; Operation Voltage Range: 3V - 5.5V; Program Memory KBytes: 1.75; Program Memory KWords: 1; RAM: 224; Timers: 2 - 8-bit, 1 - 16-bit, 0 - 32-bit; DatasheetVersion: Rev. C; PackageVersion: C04-072B, 12/2012; PackageReference: SSOP-SS20; PackageDescription: 20-Lead Plastic Shrink Small Outline, 5.3 x 7.2 mm Body, 0.65 mm Pitch; Supplier 1: Digi-Key; Supplier Part Number 1: PIC16F627-20I/SS-ND; Supplier 2: Mouser; Supplier Part Number 2: 579-PIC16F627-20I/SS; Packing: TUBE; RoHS: TRUE; Mounting Technology: Surface Mount; ComponentLink1Description: Datasheet; ComponentLink1URL: http://ww1.microchip.com/downloads/en/DeviceDoc/40300C.pdf; ComponentLink2Description: Package Specification; ComponentLink2URL: http://www.microchip.com/stellent/groups/techpub_sg/documents/packagingspec/en012702.pdf; ComponentLink3Description: URL Link1; ComponentLink3URL: Product URL:http://www.microchip.com/datasheet/PIC16F627
footprint MCHP-SSOP-SS20_N (SOP, 20-Leads, Body 7.2x5.3mm, Pitch 0.65mm, IPC Medium Density)
footprint MCHP-SSOP-SS20_L (SOP, 20-Leads, Body 7.2x5.3mm, Pitch 0.65mm, IPC High Density)
footprint MCHP-SSOP-SS20_M (SOP, 20-Leads, Body 7.2x5.3mm, Pitch 0.65mm, IPC Low Density)
pins: 1 RA2/AN2/VREF (io), 2 RA3/AN3/CMP1 (io), 3 RA4/T0CKI/CMP2 (io), 4 RA5/~{MCLR}/VPP (in), 5 VSS (power) "Ground reference for logic and I/O pins", 6 VSS (power) "Ground reference for logic and I/O pins", 7 RB0/INT (io), 8 RB1/RX/DT (io), 9 RB2/TX/CK (io), 10 RB3/CCP1 (io), 11 RB4/PGM (io), 12 RB5 (io) "Bi-directional I/O port. Interrupt-on-pin change. Can be software programmed for internal weak pull-up.", 13 RB6/T1OSO/T1CKI/PGC (io), 14 RB7/T1OSI/PGD (io), 15 VDD (power) "Positive supply for logic and I/O pins", 16 VDD (power) "Positive supply for logic and I/O pins", 17 RA6/OSC2/CLKOUT (io), 18 RA7/OSC1/CLKIN (io), 19 RA0/AN0 (io), 20 RA1/AN1 (io)

## PIC16F627T-04/SO
designator U?
Flash-Based 8-Bit CMOS Microcontroller, 4 MHz, 16 I/O, 0 to 70 degC, 18-pin SOIC (SO18), Tape and Reel; Manufacturer: Microchip; PartNumber: PIC16F627T-04/SO; Digital Communication: 0 -UART, 1 -A/E/USART, 0 -SPI, 0 -I2C; EEPROM Data Memory (bytes): 128; I/O Pins: 16; Max. CPU Speed MHz: 4; Memory Type: Flash; Operation Voltage Range: 3V - 5.5V; Packing: T/R; Program Memory KBytes: 1.75; Program Memory KWords: 1; RAM: 224; Timers: 2 - 8-bit, 1 - 16-bit, 0 - 32-bit; DatasheetVersion: Rev. C; PackageVersion: C04-051C, 12/2012; PackageReference: SOIC-SO18; PackageDescription: 18-Lead Plastic Small Outline, 7.5 x 11.55 mm Body, 1.27 mm Pitch; Supplier 1: Digi-Key; Supplier Part Number 1: PIC16F627T-04/SO-ND; Supplier 2: Mouser; Supplier Part Number 2: 579-PIC16F627T-04/SO; RoHS: TRUE; Mounting Technology: Surface Mount; ComponentLink1Description: Datasheet; ComponentLink1URL: http://ww1.microchip.com/downloads/en/DeviceDoc/40300C.pdf; ComponentLink2Description: Package Specification; ComponentLink2URL: http://www.microchip.com/stellent/groups/techpub_sg/documents/packagingspec/en012702.pdf; ComponentLink3Description: URL Link1; ComponentLink3URL: Product URL:http://www.microchip.com/datasheet/PIC16F627
footprint MCHP-SOIC-SO18_N (SOIC, 18-Leads, Body 11.55x7.5mm, Pitch 1.27mm, IPC Medium Density)
footprint MCHP-SOIC-SO18_L (SOIC, 18-Leads, Body 11.55x7.5mm, Pitch 1.27mm, IPC High Density)
footprint MCHP-SOIC-SO18_M (SOIC, 18-Leads, Body 11.55x7.5mm, Pitch 1.27mm, IPC Low Density)
pins: 1 RA2/AN2/VREF (io), 2 RA3/AN3/CMP1 (io), 3 RA4/T0CKI/CMP2 (io), 4 RA5/~{MCLR}/VPP (in), 5 VSS (power) "Ground reference for logic and I/O pins", 6 RB0/INT (io), 7 RB1/RX/DT (io), 8 RB2/TX/CK (io), 9 RB3/CCP1 (io), 10 RB4/PGM (io), 11 RB5 (io) "Bi-directional I/O port. Interrupt-on-pin change. Can be software programmed for internal weak pull-up.", 12 RB6/T1OSO/T1CKI/PGC (io), 13 RB7/T1OSI/PGD (io), 14 VDD (power) "Positive supply for logic and I/O pins", 15 RA6/OSC2/CLKOUT (io), 16 RA7/OSC1/CLKIN (io), 17 RA0/AN0 (io), 18 RA1/AN1 (io)

## PIC16F627T-04/SS
designator U?
Flash-Based 8-Bit CMOS Microcontroller, 4 MHz, 16 I/O, 0 to 70 degC, 20-pin SSOP (SS20), Tape and Reel; Manufacturer: Microchip; PartNumber: PIC16F627T-04/SS; Digital Communication: 0 -UART, 1 -A/E/USART, 0 -SPI, 0 -I2C; EEPROM Data Memory (bytes): 128; I/O Pins: 16; Max. CPU Speed MHz: 4; Memory Type: Flash; Operation Voltage Range: 3V - 5.5V; Packing: T/R; Program Memory KBytes: 1.75; Program Memory KWords: 1; RAM: 224; Timers: 2 - 8-bit, 1 - 16-bit, 0 - 32-bit; DatasheetVersion: Rev. C; PackageVersion: C04-072B, 12/2012; PackageReference: SSOP-SS20; PackageDescription: 20-Lead Plastic Shrink Small Outline, 5.3 x 7.2 mm Body, 0.65 mm Pitch; Supplier 1: Digi-Key; Supplier Part Number 1: PIC16F627T-04/SS-ND; Supplier 2: Mouser; Supplier Part Number 2: 579-PIC16F627T-04/SS; RoHS: TRUE; Mounting Technology: Surface Mount; ComponentLink1Description: Datasheet; ComponentLink1URL: http://ww1.microchip.com/downloads/en/DeviceDoc/40300C.pdf; ComponentLink2Description: Package Specification; ComponentLink2URL: http://www.microchip.com/stellent/groups/techpub_sg/documents/packagingspec/en012702.pdf; ComponentLink3Description: URL Link1; ComponentLink3URL: Product URL:http://www.microchip.com/datasheet/PIC16F627
footprint MCHP-SSOP-SS20_N (SOP, 20-Leads, Body 7.2x5.3mm, Pitch 0.65mm, IPC Medium Density)
footprint MCHP-SSOP-SS20_L (SOP, 20-Leads, Body 7.2x5.3mm, Pitch 0.65mm, IPC High Density)
footprint MCHP-SSOP-SS20_M (SOP, 20-Leads, Body 7.2x5.3mm, Pitch 0.65mm, IPC Low Density)
pins: 1 RA2/AN2/VREF (io), 2 RA3/AN3/CMP1 (io), 3 RA4/T0CKI/CMP2 (io), 4 RA5/~{MCLR}/VPP (in), 5 VSS (power) "Ground reference for logic and I/O pins", 6 VSS (power) "Ground reference for logic and I/O pins", 7 RB0/INT (io), 8 RB1/RX/DT (io), 9 RB2/TX/CK (io), 10 RB3/CCP1 (io), 11 RB4/PGM (io), 12 RB5 (io) "Bi-directional I/O port. Interrupt-on-pin change. Can be software programmed for internal weak pull-up.", 13 RB6/T1OSO/T1CKI/PGC (io), 14 RB7/T1OSI/PGD (io), 15 VDD (power) "Positive supply for logic and I/O pins", 16 VDD (power) "Positive supply for logic and I/O pins", 17 RA6/OSC2/CLKOUT (io), 18 RA7/OSC1/CLKIN (io), 19 RA0/AN0 (io), 20 RA1/AN1 (io)

## PIC16F627T-04E/SS
designator U?
Flash-Based 8-Bit CMOS Microcontroller, 4 MHz, 16 I/O, -40 to 125 degC, 20-pin SSOP (SS20), Tape and Reel; Manufacturer: Microchip; PartNumber: PIC16F627T-04E/SS; Digital Communication: 0 -UART, 1 -A/E/USART, 0 -SPI, 0 -I2C; EEPROM Data Memory (bytes): 128; I/O Pins: 16; Max. CPU Speed MHz: 4; Memory Type: Flash; Operation Voltage Range: 3V - 5.5V; Packing: T/R; Program Memory KBytes: 1.75; Program Memory KWords: 1; RAM: 224; Timers: 2 - 8-bit, 1 - 16-bit, 0 - 32-bit; DatasheetVersion: Rev. C; PackageVersion: C04-072B, 12/2012; PackageReference: SSOP-SS20; PackageDescription: 20-Lead Plastic Shrink Small Outline, 5.3 x 7.2 mm Body, 0.65 mm Pitch; Supplier 1: Digi-Key; Supplier Part Number 1: PIC16F627T-04E/SS-ND; Supplier 2: Mouser; Supplier Part Number 2: 579-16F627T-04E/SS; RoHS: TRUE; Mounting Technology: Surface Mount; ComponentLink1Description: Datasheet; ComponentLink1URL: http://ww1.microchip.com/downloads/en/DeviceDoc/40300C.pdf; ComponentLink2Description: Package Specification; ComponentLink2URL: http://www.microchip.com/stellent/groups/techpub_sg/documents/packagingspec/en012702.pdf; ComponentLink3Description: URL Link1; ComponentLink3URL: Product URL:http://www.microchip.com/datasheet/PIC16F627
footprint MCHP-SSOP-SS20_N (SOP, 20-Leads, Body 7.2x5.3mm, Pitch 0.65mm, IPC Medium Density)
footprint MCHP-SSOP-SS20_L (SOP, 20-Leads, Body 7.2x5.3mm, Pitch 0.65mm, IPC High Density)
footprint MCHP-SSOP-SS20_M (SOP, 20-Leads, Body 7.2x5.3mm, Pitch 0.65mm, IPC Low Density)
pins: 1 RA2/AN2/VREF (io), 2 RA3/AN3/CMP1 (io), 3 RA4/T0CKI/CMP2 (io), 4 RA5/~{MCLR}/VPP (in), 5 VSS (power) "Ground reference for logic and I/O pins", 6 VSS (power) "Ground reference for logic and I/O pins", 7 RB0/INT (io), 8 RB1/RX/DT (io), 9 RB2/TX/CK (io), 10 RB3/CCP1 (io), 11 RB4/PGM (io), 12 RB5 (io) "Bi-directional I/O port. Interrupt-on-pin change. Can be software programmed for internal weak pull-up.", 13 RB6/T1OSO/T1CKI/PGC (io), 14 RB7/T1OSI/PGD (io), 15 VDD (power) "Positive supply for logic and I/O pins", 16 VDD (power) "Positive supply for logic and I/O pins", 17 RA6/OSC2/CLKOUT (io), 18 RA7/OSC1/CLKIN (io), 19 RA0/AN0 (io), 20 RA1/AN1 (io)

## PIC16F627T-04I/SO
designator U?
Flash-Based 8-Bit CMOS Microcontroller, 4 MHz, 16 I/O, -40 to 85 degC, 18-pin SOIC (SO18), Tape and Reel; Manufacturer: Microchip; PartNumber: PIC16F627T-04I/SO; Digital Communication: 0 -UART, 1 -A/E/USART, 0 -SPI, 0 -I2C; EEPROM Data Memory (bytes): 128; I/O Pins: 16; Max. CPU Speed MHz: 4; Memory Type: Flash; Operation Voltage Range: 3V - 5.5V; Packing: T/R; Program Memory KBytes: 1.75; Program Memory KWords: 1; RAM: 224; Timers: 2 - 8-bit, 1 - 16-bit, 0 - 32-bit; DatasheetVersion: Rev. C; PackageVersion: C04-051C, 12/2012; PackageReference: SOIC-SO18; PackageDescription: 18-Lead Plastic Small Outline, 7.5 x 11.55 mm Body, 1.27 mm Pitch; Supplier 1: Digi-Key; Supplier Part Number 1: PIC16F627T-04I/SO-ND; Supplier 2: Mouser; Supplier Part Number 2: 579-16F627T-04I/SO; RoHS: TRUE; Mounting Technology: Surface Mount; ComponentLink1Description: Datasheet; ComponentLink1URL: http://ww1.microchip.com/downloads/en/DeviceDoc/40300C.pdf; ComponentLink2Description: Package Specification; ComponentLink2URL: http://www.microchip.com/stellent/groups/techpub_sg/documents/packagingspec/en012702.pdf; ComponentLink3Description: URL Link1; ComponentLink3URL: Product URL:http://www.microchip.com/datasheet/PIC16F627
footprint MCHP-SOIC-SO18_N (SOIC, 18-Leads, Body 11.55x7.5mm, Pitch 1.27mm, IPC Medium Density)
footprint MCHP-SOIC-SO18_L (SOIC, 18-Leads, Body 11.55x7.5mm, Pitch 1.27mm, IPC High Density)
footprint MCHP-SOIC-SO18_M (SOIC, 18-Leads, Body 11.55x7.5mm, Pitch 1.27mm, IPC Low Density)
pins: 1 RA2/AN2/VREF (io), 2 RA3/AN3/CMP1 (io), 3 RA4/T0CKI/CMP2 (io), 4 RA5/~{MCLR}/VPP (in), 5 VSS (power) "Ground reference for logic and I/O pins", 6 RB0/INT (io), 7 RB1/RX/DT (io), 8 RB2/TX/CK (io), 9 RB3/CCP1 (io), 10 RB4/PGM (io), 11 RB5 (io) "Bi-directional I/O port. Interrupt-on-pin change. Can be software programmed for internal weak pull-up.", 12 RB6/T1OSO/T1CKI/PGC (io), 13 RB7/T1OSI/PGD (io), 14 VDD (power) "Positive supply for logic and I/O pins", 15 RA6/OSC2/CLKOUT (io), 16 RA7/OSC1/CLKIN (io), 17 RA0/AN0 (io), 18 RA1/AN1 (io)

## PIC16F627T-20/SO
designator U?
Flash-Based 8-Bit CMOS Microcontroller, 20 MHz, 16 I/O, 0 to 70 degC, 18-pin SOIC (SO18), Tape and Reel; Manufacturer: Microchip; PartNumber: PIC16F627T-20/SO; Digital Communication: 0 -UART, 1 -A/E/USART, 0 -SPI, 0 -I2C; EEPROM Data Memory (bytes): 128; I/O Pins: 15; Max. CPU Speed MHz: 20; Memory Type: Flash; Operation Voltage Range: 3V - 5.5V; Packing: T/R; Program Memory KBytes: 1.75; Program Memory KWords: 1; RAM: 224; Timers: 2 - 8-bit, 1 - 16-bit, 0 - 32-bit; DatasheetVersion: Rev. C; PackageVersion: C04-051C, 12/2012; PackageReference: SOIC-SO18; PackageDescription: 18-Lead Plastic Small Outline, 7.5 x 11.55 mm Body, 1.27 mm Pitch; Supplier 1: Digi-Key; Supplier Part Number 1: PIC16F627T-20/SO-ND; Supplier 2: Mouser; Supplier Part Number 2: 579-PIC16F627T-20/SO; RoHS: TRUE; Mounting Technology: Surface Mount; ComponentLink1Description: Datasheet; ComponentLink1URL: http://ww1.microchip.com/downloads/en/DeviceDoc/40300C.pdf; ComponentLink2Description: Package Specification; ComponentLink2URL: http://www.microchip.com/stellent/groups/techpub_sg/documents/packagingspec/en012702.pdf; ComponentLink3Description: URL Link1; ComponentLink3URL: Product URL:http://www.microchip.com/datasheet/PIC16F627
footprint MCHP-SOIC-SO18_N (SOIC, 18-Leads, Body 11.55x7.5mm, Pitch 1.27mm, IPC Medium Density)
footprint MCHP-SOIC-SO18_L (SOIC, 18-Leads, Body 11.55x7.5mm, Pitch 1.27mm, IPC High Density)
footprint MCHP-SOIC-SO18_M (SOIC, 18-Leads, Body 11.55x7.5mm, Pitch 1.27mm, IPC Low Density)
pins: 1 RA2/AN2/VREF (io), 2 RA3/AN3/CMP1 (io), 3 RA4/T0CKI/CMP2 (io), 4 RA5/~{MCLR}/VPP (in), 5 VSS (power) "Ground reference for logic and I/O pins", 6 RB0/INT (io), 7 RB1/RX/DT (io), 8 RB2/TX/CK (io), 9 RB3/CCP1 (io), 10 RB4/PGM (io), 11 RB5 (io) "Bi-directional I/O port. Interrupt-on-pin change. Can be software programmed for internal weak pull-up.", 12 RB6/T1OSO/T1CKI/PGC (io), 13 RB7/T1OSI/PGD (io), 14 VDD (power) "Positive supply for logic and I/O pins", 15 RA6/OSC2/CLKOUT (io), 16 RA7/OSC1/CLKIN (io), 17 RA0/AN0 (io), 18 RA1/AN1 (io)

## PIC16F627T-20/SS
designator U?
Flash-Based 8-Bit CMOS Microcontroller, 20 MHz, 16 I/O, 0 to 70 degC, 20-pin SSOP (SS20), Tape and Reel; Manufacturer: Microchip; PartNumber: PIC16F627T-20/SS; Digital Communication: 0 -UART, 1 -A/E/USART, 0 -SPI, 0 -I2C; EEPROM Data Memory (bytes): 128; I/O Pins: 15; Max. CPU Speed MHz: 20; Memory Type: Flash; Operation Voltage Range: 3V - 5.5V; Packing: T/R; Program Memory KBytes: 1.75; Program Memory KWords: 1; RAM: 224; Timers: 2 - 8-bit, 1 - 16-bit, 0 - 32-bit; DatasheetVersion: Rev. C; PackageVersion: C04-072B, 12/2012; PackageReference: SSOP-SS20; PackageDescription: 20-Lead Plastic Shrink Small Outline, 5.3 x 7.2 mm Body, 0.65 mm Pitch; Supplier 1: Digi-Key; Supplier Part Number 1: PIC16F627T-20/SS-ND; Supplier 2: Mouser; Supplier Part Number 2: 579-PIC16F627T-20/SS; RoHS: TRUE; Mounting Technology: Surface Mount; ComponentLink1Description: Datasheet; ComponentLink1URL: http://ww1.microchip.com/downloads/en/DeviceDoc/40300C.pdf; ComponentLink2Description: Package Specification; ComponentLink2URL: http://www.microchip.com/stellent/groups/techpub_sg/documents/packagingspec/en012702.pdf; ComponentLink3Description: URL Link1; ComponentLink3URL: Product URL:http://www.microchip.com/datasheet/PIC16F627
footprint MCHP-SSOP-SS20_N (SOP, 20-Leads, Body 7.2x5.3mm, Pitch 0.65mm, IPC Medium Density)
footprint MCHP-SSOP-SS20_L (SOP, 20-Leads, Body 7.2x5.3mm, Pitch 0.65mm, IPC High Density)
footprint MCHP-SSOP-SS20_M (SOP, 20-Leads, Body 7.2x5.3mm, Pitch 0.65mm, IPC Low Density)
pins: 1 RA2/AN2/VREF (io), 2 RA3/AN3/CMP1 (io), 3 RA4/T0CKI/CMP2 (io), 4 RA5/~{MCLR}/VPP (in), 5 VSS (power) "Ground reference for logic and I/O pins", 6 VSS (power) "Ground reference for logic and I/O pins", 7 RB0/INT (io), 8 RB1/RX/DT (io), 9 RB2/TX/CK (io), 10 RB3/CCP1 (io), 11 RB4/PGM (io), 12 RB5 (io) "Bi-directional I/O port. Interrupt-on-pin change. Can be software programmed for internal weak pull-up.", 13 RB6/T1OSO/T1CKI/PGC (io), 14 RB7/T1OSI/PGD (io), 15 VDD (power) "Positive supply for logic and I/O pins", 16 VDD (power) "Positive supply for logic and I/O pins", 17 RA6/OSC2/CLKOUT (io), 18 RA7/OSC1/CLKIN (io), 19 RA0/AN0 (io), 20 RA1/AN1 (io)

## PIC16F627T-20I/SO
designator U?
Flash-Based 8-Bit CMOS Microcontroller, 20 MHz, 16 I/O, -40 to 85 degC, 18-pin SOIC (SO18), Tape and Reel; Manufacturer: Microchip; PartNumber: PIC16F627T-20I/SO; Digital Communication: 0 -UART, 1 -A/E/USART, 0 -SPI, 0 -I2C; EEPROM Data Memory (bytes): 128; I/O Pins: 16; Max. CPU Speed MHz: 20; Memory Type: Flash; Operation Voltage Range: 3V - 5.5V; Packing: T/R; Program Memory KBytes: 1.75; Program Memory KWords: 1; RAM: 224; Timers: 2 - 8-bit, 1 - 16-bit, 0 - 32-bit; DatasheetVersion: Rev. C; PackageVersion: C04-051C, 12/2012; PackageReference: SOIC-SO18; PackageDescription: 18-Lead Plastic Small Outline, 7.5 x 11.55 mm Body, 1.27 mm Pitch; Supplier 1: Digi-Key; Supplier Part Number 1: PIC16F627T-20I/SO-ND; Supplier 2: Mouser; Supplier Part Number 2: 579-16F627T-20I/SO; RoHS: TRUE; Mounting Technology: Surface Mount; ComponentLink1Description: Datasheet; ComponentLink1URL: http://ww1.microchip.com/downloads/en/DeviceDoc/40300C.pdf; ComponentLink2Description: Package Specification; ComponentLink2URL: http://www.microchip.com/stellent/groups/techpub_sg/documents/packagingspec/en012702.pdf; ComponentLink3Description: URL Link1; ComponentLink3URL: Product URL:http://www.microchip.com/datasheet/PIC16F627
footprint MCHP-SOIC-SO18_N (SOIC, 18-Leads, Body 11.55x7.5mm, Pitch 1.27mm, IPC Medium Density)
footprint MCHP-SOIC-SO18_L (SOIC, 18-Leads, Body 11.55x7.5mm, Pitch 1.27mm, IPC High Density)
footprint MCHP-SOIC-SO18_M (SOIC, 18-Leads, Body 11.55x7.5mm, Pitch 1.27mm, IPC Low Density)
pins: 1 RA2/AN2/VREF (io), 2 RA3/AN3/CMP1 (io), 3 RA4/T0CKI/CMP2 (io), 4 RA5/~{MCLR}/VPP (in), 5 VSS (power) "Ground reference for logic and I/O pins", 6 RB0/INT (io), 7 RB1/RX/DT (io), 8 RB2/TX/CK (io), 9 RB3/CCP1 (io), 10 RB4/PGM (io), 11 RB5 (io) "Bi-directional I/O port. Interrupt-on-pin change. Can be software programmed for internal weak pull-up.", 12 RB6/T1OSO/T1CKI/PGC (io), 13 RB7/T1OSI/PGD (io), 14 VDD (power) "Positive supply for logic and I/O pins", 15 RA6/OSC2/CLKOUT (io), 16 RA7/OSC1/CLKIN (io), 17 RA0/AN0 (io), 18 RA1/AN1 (io)

## PIC16F627T-20I/SS
designator U?
Flash-Based 8-Bit CMOS Microcontroller, 20 MHz, 16 I/O, -40 to 85 degC, 20-pin SSOP (SS20), Tape and Reel; Manufacturer: Microchip; PartNumber: PIC16F627T-20I/SS; Digital Communication: 0 -UART, 1 -A/E/USART, 0 -SPI, 0 -I2C; EEPROM Data Memory (bytes): 128; I/O Pins: 16; Max. CPU Speed MHz: 20; Memory Type: Flash; Operation Voltage Range: 3V - 5.5V; Packing: T/R; Program Memory KBytes: 1.75; Program Memory KWords: 1; RAM: 224; Timers: 2 - 8-bit, 1 - 16-bit, 0 - 32-bit; DatasheetVersion: Rev. C; PackageVersion: C04-072B, 12/2012; PackageReference: SSOP-SS20; PackageDescription: 20-Lead Plastic Shrink Small Outline, 5.3 x 7.2 mm Body, 0.65 mm Pitch; Supplier 1: Digi-Key; Supplier Part Number 1: PIC16F627T-20I/SS-ND; Supplier 2: Mouser; Supplier Part Number 2: 579-16F627T-20I/SS; RoHS: TRUE; Mounting Technology: Surface Mount; ComponentLink1Description: Datasheet; ComponentLink1URL: http://ww1.microchip.com/downloads/en/DeviceDoc/40300C.pdf; ComponentLink2Description: Package Specification; ComponentLink2URL: http://www.microchip.com/stellent/groups/techpub_sg/documents/packagingspec/en012702.pdf; ComponentLink3Description: URL Link1; ComponentLink3URL: Product URL:http://www.microchip.com/datasheet/PIC16F627
footprint MCHP-SSOP-SS20_N (SOP, 20-Leads, Body 7.2x5.3mm, Pitch 0.65mm, IPC Medium Density)
footprint MCHP-SSOP-SS20_L (SOP, 20-Leads, Body 7.2x5.3mm, Pitch 0.65mm, IPC High Density)
footprint MCHP-SSOP-SS20_M (SOP, 20-Leads, Body 7.2x5.3mm, Pitch 0.65mm, IPC Low Density)
pins: 1 RA2/AN2/VREF (io), 2 RA3/AN3/CMP1 (io), 3 RA4/T0CKI/CMP2 (io), 4 RA5/~{MCLR}/VPP (in), 5 VSS (power) "Ground reference for logic and I/O pins", 6 VSS (power) "Ground reference for logic and I/O pins", 7 RB0/INT (io), 8 RB1/RX/DT (io), 9 RB2/TX/CK (io), 10 RB3/CCP1 (io), 11 RB4/PGM (io), 12 RB5 (io) "Bi-directional I/O port. Interrupt-on-pin change. Can be software programmed for internal weak pull-up.", 13 RB6/T1OSO/T1CKI/PGC (io), 14 RB7/T1OSI/PGD (io), 15 VDD (power) "Positive supply for logic and I/O pins", 16 VDD (power) "Positive supply for logic and I/O pins", 17 RA6/OSC2/CLKOUT (io), 18 RA7/OSC1/CLKIN (io), 19 RA0/AN0 (io), 20 RA1/AN1 (io)

## PIC16F628-04/P
designator U?
Flash-Based 8-Bit CMOS Microcontroller, 4 MHz, 16 I/O, 0 to 70 degC, 18-pin PDIP (P18), Tube; Manufacturer: Microchip; PartNumber: PIC16F628-04/P; Digital Communication: 0 -UART, 1 -A/E/USART, 0 -SPI, 0 -I2C; EEPROM Data Memory (bytes): 128; I/O Pins: 16; Max. CPU Speed MHz: 4; Memory Type: Flash; Operation Voltage Range: 3V - 5.5V; Program Memory KBytes: 3.5; Program Memory KWords: 2; RAM: 224; Timers: 2 - 8-bit, 1 - 16-bit; DatasheetVersion: Rev. C; PackageVersion: C04-007B, 12/2012; PackageReference: PDIP-P18; PackageDescription: 18-Lead Plastic Dual In-Line, Row Spacing 7.62 mm, 22.86 x 6.6 mm Body, 2.54 mm Pitch; Supplier 1: Digi-Key; Supplier Part Number 1: PIC16F628-04/P-ND; Supplier 2: Farnell; Supplier Part Number 2: 9760369; Supplier 3: Farnell; Supplier Part Number 3: 1523937; Supplier 4: Newark; Supplier Part Number 4: 54K2828; Supplier 5: Mouser; Supplier Part Number 5: 579-PIC16F62804P; Packing: TUBE; RoHS: TRUE; Mounting Technology: Through Hole; ComponentLink1Description: Datasheet; ComponentLink1URL: http://ww1.microchip.com/downloads/en/DeviceDoc/40300C.pdf; ComponentLink2Description: Package Specification; ComponentLink2URL: http://www.microchip.com/stellent/groups/techpub_sg/documents/packagingspec/en012702.pdf; ComponentLink3Description: URL Link1; ComponentLink3URL: Product URL:http://www.microchip.com/datasheet/PIC16F628
footprint MCHP-PDIP-P18 (DIP, 18-Leads, Body 22.83x6.604mm, Pitch 2.54mm)
pins: 1 RA2/AN2/VREF (io), 2 RA3/AN3/CMP1 (io), 3 RA4/T0CKI/CMP2 (io), 4 RA5/~{MCLR}/VPP (in), 5 VSS (power) "Ground reference for logic and I/O pins", 6 RB0/INT (io), 7 RB1/RX/DT (io), 8 RB2/TX/CK (io), 9 RB3/CCP1 (io), 10 RB4/PGM (io), 11 RB5 (io) "Bi-directional I/O port. Interrupt-on-pin change. Can be software programmed for internal weak pull-up.", 12 RB6/T1OSO/T1CKI/PGC (io), 13 RB7/T1OSI/PGD (io), 14 VDD (power) "Positive supply for logic and I/O pins", 15 RA6/OSC2/CLKOUT (io), 16 RA7/OSC1/CLKIN (io), 17 RA0/AN0 (io), 18 RA1/AN1 (io)

## PIC16F628-04/SO
designator U?
Flash-Based 8-Bit CMOS Microcontroller, 4 MHz, 16 I/O, 0 to 70 degC, 18-pin SOIC (SO18), Tube; Manufacturer: Microchip; PartNumber: PIC16F628-04/SO; Digital Communication: 0 -UART, 1 -A/E/USART, 0 -SPI, 0 -I2C; EEPROM Data Memory (bytes): 128; I/O Pins: 16; Max. CPU Speed MHz: 4; Memory Type: Flash; Operation Voltage Range: 3V - 5.5V; Program Memory KBytes: 3.5; Program Memory KWords: 2; RAM: 224; Timers: 2 - 8-bit, 1 - 16-bit; DatasheetVersion: Rev. C; PackageVersion: C04-051C, 12/2012; PackageReference: SOIC-SO18; PackageDescription: 18-Lead Plastic Small Outline, 7.5 x 11.55 mm Body, 1.27 mm Pitch; Supplier 1: Digi-Key; Supplier Part Number 1: PIC16F628-04/SO-ND; Supplier 2: Farnell; Supplier Part Number 2: 9760377; Supplier 3: Newark; Supplier Part Number 3: 59K0246; Supplier 4: Mouser; Supplier Part Number 4: 579-PIC16F62804SO; Packing: TUBE; RoHS: TRUE; Mounting Technology: Surface Mount; ComponentLink1Description: Datasheet; ComponentLink1URL: http://ww1.microchip.com/downloads/en/DeviceDoc/40300C.pdf; ComponentLink2Description: Package Specification; ComponentLink2URL: http://www.microchip.com/stellent/groups/techpub_sg/documents/packagingspec/en012702.pdf; ComponentLink3Description: URL Link1; ComponentLink3URL: Product URL:http://www.microchip.com/datasheet/PIC16F628
footprint MCHP-SOIC-SO18_N (SOIC, 18-Leads, Body 11.55x7.5mm, Pitch 1.27mm, IPC Medium Density)
footprint MCHP-SOIC-SO18_L (SOIC, 18-Leads, Body 11.55x7.5mm, Pitch 1.27mm, IPC High Density)
footprint MCHP-SOIC-SO18_M (SOIC, 18-Leads, Body 11.55x7.5mm, Pitch 1.27mm, IPC Low Density)
pins: 1 RA2/AN2/VREF (io), 2 RA3/AN3/CMP1 (io), 3 RA4/T0CKI/CMP2 (io), 4 RA5/~{MCLR}/VPP (in), 5 VSS (power) "Ground reference for logic and I/O pins", 6 RB0/INT (io), 7 RB1/RX/DT (io), 8 RB2/TX/CK (io), 9 RB3/CCP1 (io), 10 RB4/PGM (io), 11 RB5 (io) "Bi-directional I/O port. Interrupt-on-pin change. Can be software programmed for internal weak pull-up.", 12 RB6/T1OSO/T1CKI/PGC (io), 13 RB7/T1OSI/PGD (io), 14 VDD (power) "Positive supply for logic and I/O pins", 15 RA6/OSC2/CLKOUT (io), 16 RA7/OSC1/CLKIN (io), 17 RA0/AN0 (io), 18 RA1/AN1 (io)